# EAGLE library part CPL-ETH-MACJACK-LED-SHLD (library TinWhiskers)
Connector: Ethernet, MagJack, RJ-45, Status LEDs+Shield; Datasheet: http://www.kosmodrom.com.ua/pdf/HR911105A.pdf
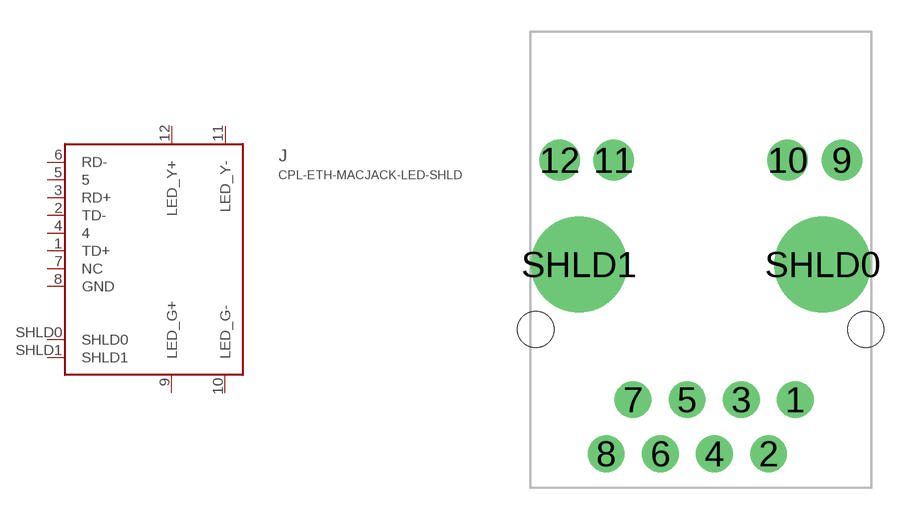
[diagram p9: symbol with the pads of MAGJACK(HR911105A); footprint MAGJACK(HR911105A)]

Designator prefix J

## CPL-ETH-MACJACK-LED-SHLD  [MAGJACK(HR911105A)]
1  TD+  pas
2  TD-  pas
3  RD+  pas
4  4  pas
5  5  pas
6  RD-  pas
7  NC  pas
8  GND  pas
9  LED_G+  pas
10  LED_G-  pas
11  LED_Y-  pas
12  LED_Y+  pas
SHLD0  SHLD0  pas
SHLD1  SHLD1  pas

## Footprint MAGJACK(HR911105A) (pad centres in mm)
Ethernet MagJack: HR911105A; Mfr: HanRun; Datasheet: http://www.kosmodrom.com.ua/pdf/HR911105A.pdf
drill 1.15: 1 4.44,-6.35; 2 3.18,-8.89; 3 1.9,-6.35; 4 0.64,-8.89; 5 -0.64,-6.35; 6 -1.9,-8.89; 7 -3.18,-6.35; 8 -4.44,-8.89
drill 1.27: 9 6.625,4.9; 10 4.085,4.9; 11 -4.085,4.9; 12 -6.625,4.9
drill 3.5: SHLD0 5.715,0; SHLD1 -5.715,0
hole 1.7 at -7.745,-3.05
hole 1.7 at 7.745,-3.05